# Altium footprint library RJ45_TE_Connectivity_5406299-1.PcbLib: 1 footprints
Each footprint in its own frame and in the unit in brackets; x right, y up, seen from the top. Pads: shape width x height; smd on the part's side, far side on the other; paste and mask are expansions set on the pad; w line width, h text height; cw(c..) or ccw(c..) is an arc to the next point about the centre after c.
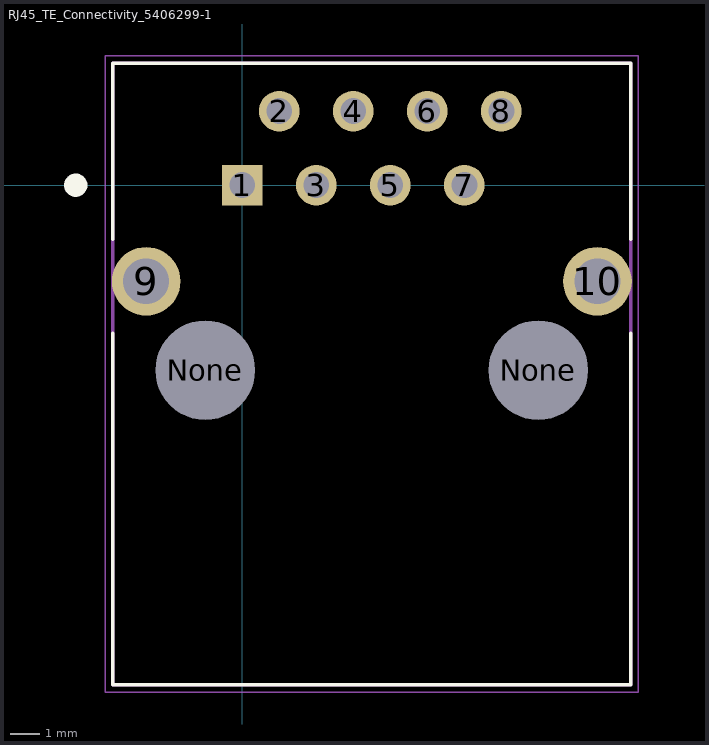
[diagram p0: the footprint, top view; thin cyan lines are the x and y axes]

## RJ45_TE_Connectivity_5406299-1 [mm]
pads (12):
  rect 1.398x1.398 hole 0.89: 1(0,0)
  round 1.398 hole 0.89: 2(1.27,2.54) 3(2.54,0) 4(3.81,2.54) 5(5.08,0) 6(6.35,2.54) 7(7.62,0) 8(8.89,2.54)
  round 2.355 hole 1.57: 9(-3.3,-3.3) 10(12.19,-3.3)
  round 3.25 hole 3.4 unplated: None(-1.27,-6.35) None(10.16,-6.35)
Top Overlay:
  circle w0.4: c-5.715,0 r0.2
  lines w0.127: -4.445,-5.08 -4.445,-17.15 13.335,-17.15 13.335,-5.08 ; -4.445,-1.85 -4.445,4.19 13.335,4.19 13.335,-1.85
Mechanical 4:
  circle w0.4: c0,0 r0.2
  circle w0.4: c0,0 r0.2
  lines w0.127: -4.445,-17.15 -4.445,4.19 ; -4.445,-17.15 13.335,-17.15 ; -4.445,-17.15 -4.445,4.19 ; -4.445,-17.15 13.335,-17.15 ; -4.445,4.19 13.335,4.19 ; -4.445,4.19 13.335,4.19 ; 13.335,-17.15 13.335,4.19 ; 13.335,-17.15 13.335,4.19
Mechanical 16:
  lines w0.05: -4.695,-17.4 -4.695,4.44 13.585,4.44 13.585,-17.4 -4.695,-17.4
3D body "c-5406299-01-b-3d.stp": height 14.65, standoff -3.79, extent -4.399,-17.02 13.335,4.316